# Altium footprint library CartSimple.PCBLIB: 166 footprints (part 3 of 11)
Each footprint in its own frame and in the unit in brackets; x right, y up, seen from the top. Pads: shape width x height; smd on the part's side, far side on the other; paste and mask are expansions set on the pad; w line width, h text height; cw(c..) or ccw(c..) is an arc to the next point about the centre after c.
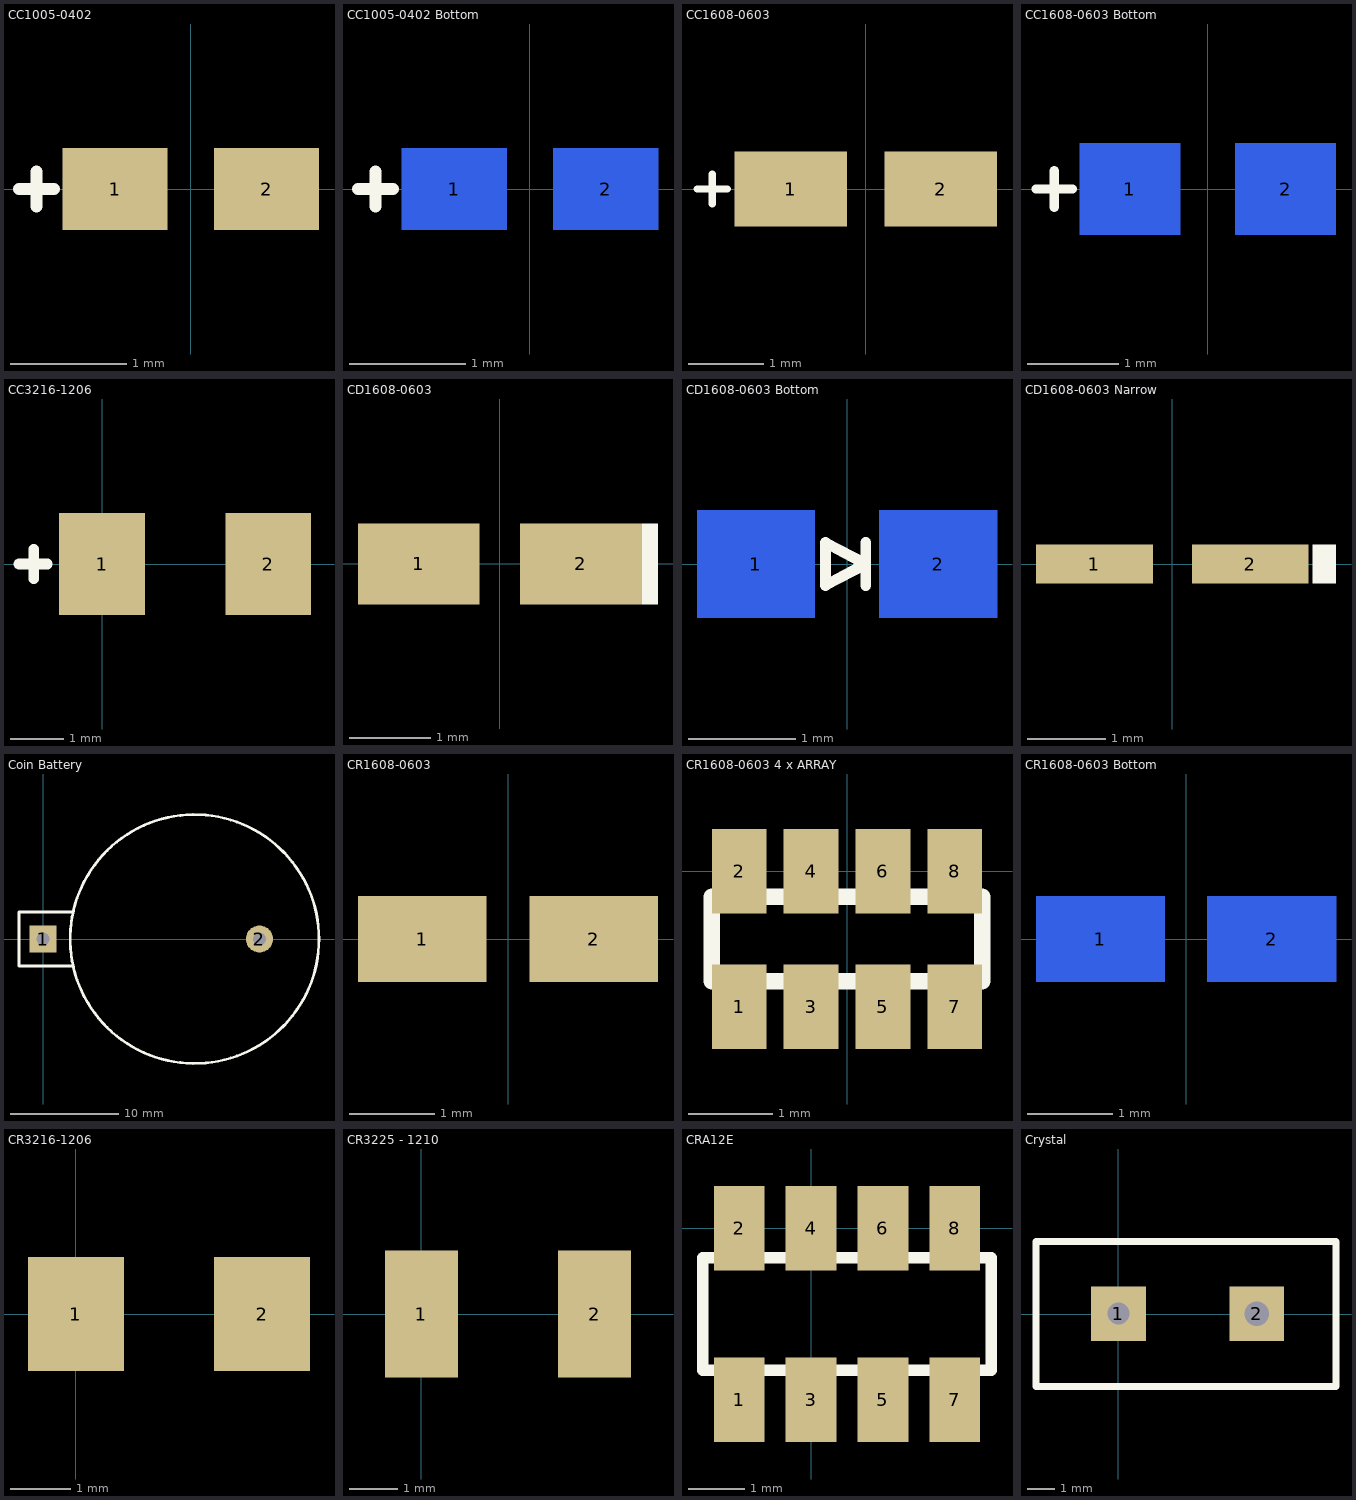
[diagram p2: the footprints below, top view; thin cyan lines are the x and y axes]

## CC1005-0402 [mm]
pads (2):
  rect 0.9x0.7 smd: 1(-0.65,0) 2(0.65,0)
Top Overlay:
  lines w0.1: -1.475,0 -1.175,0 ; -1.325,-0.15 -1.325,0.15

## CC1005-0402 Bottom [mm]
pads (2):
  rect 0.9x0.7 smd far side: 1(-0.65,0) 2(0.65,0)
Top Overlay:
  lines w0.1: -1.475,0 -1.175,0 ; -1.325,-0.15 -1.325,0.15

## CC1608-0603 [mm]
pads (2):
  rect 1.5x1 smd: 1(-1,0) 2(1,0)
Top Overlay:
  lines w0.1: -2.25,0 -1.85,0 ; -2.05,-0.2 -2.05,0.2

## CC1608-0603 Bottom [mm]
pads (2):
  rect 1.1x1 smd far side: 1(-0.85,0) 2(0.85,0)
Top Overlay:
  lines w0.1: -1.875,0 -1.475,0 ; -1.675,-0.2 -1.675,0.2

## CC3216-1206 [mm]
pads (2):
  rect 1.6x1.9 smd: 1(0,0) 2(3.1,0)
Top Overlay:
  lines w0.2: -1.55,0 -1.025,0 ; -1.275,-0.275 -1.275,0.275

## CD1608-0603 [mm]
pads (2):
  rect 1.5x1 smd: 1(-1,0) 2(1,0)
Top Overlay:
  rectangle: 1.75,-0.5 1.95,0.5

## CD1608-0603 Bottom [mm]
pads (2):
  rect 1.1x1 smd far side: 1(-0.85,0) 2(0.85,0)
Top Overlay:
  lines w0.1: 0.175,-0.2 0.175,0.2 ; -0.2,-0.2 -0.2,0.2 0.175,0 -0.2,-0.2

## CD1608-0603 Narrow [mm]
pads (2):
  rect 1.5x0.5 smd: 1(-1,0) 2(1,0)
Top Overlay:
  rectangle: 1.8,-0.25 2.1,0.25

## Coin Battery  [mm]
pads (2):
  rect 2.5x2.5 hole 1.2: 1(0,0)
  round 2.5 hole 1.2: 2(20,0)
Top Overlay:
  circle w0.254: c14,0 r11.5
  lines w0.254: 2.775,-2.5 -2.225,-2.5 -2.225,2.5 2.775,2.5

## CR1608-0603 [mm]
pads (2):
  rect 1.5x1 smd: 1(-1,0) 2(1,0)

## CR1608-0603 4 x ARRAY [mm]
pads (8):
  rect 0.65x1 smd: 1(-1.275,-1.6) 2(-1.275,0) 3(-0.425,-1.6) 4(-0.425,0) 5(0.425,-1.6) 6(0.425,0) 7(1.275,-1.6) 8(1.275,0)
Top Overlay:
  lines w0.2: -1.6,-1.3 1.6,-1.3 1.6,-0.3 -1.6,-0.3 -1.6,-1.3

## CR1608-0603 Bottom [mm]
pads (2):
  rect 1.5x1 smd far side: 1(-1,0) 2(1,0)

## CR3216-1206  [mm]
pads (2):
  rect 1.6x1.9 smd: 1(0,0) 2(3.1,0)

## CR3225 - 1210 [mm]
pads (2):
  rect 1.5x2.6 smd: 1(0,0) 2(3.55,0)

## CRA12E [mm] "Vishay 4 x SMD resistor array"
pads (8):
  rect 0.9x1.5 smd: 1(-1.275,-3.05) 2(-1.275,0) 3(0,-3.05) 4(0,0) 5(1.275,-3.05) 6(1.275,0) 7(2.55,-3.05) 8(2.55,0)
Top Overlay:
  lines w0.2: -1.925,-2.525 -1.925,-0.525 3.2,-0.525 3.2,-2.525 -1.925,-2.525

## Crystal [mm]
pads (2):
  rect 2x2 hole 0.8: 1(0,0.025)
  rect 2x2 hole 0.9: 2(5.075,0.025)
Top Overlay:
  lines w0.254: -3.025,-2.65 7.975,-2.65 7.975,2.675 -3.025,2.675 -3.025,-2.65